# Altium schematic symbol library AltiumUGPlab10_var9.SchLib: 4 symbols
Pins are listed as number, name and electrical type; pins without a type are passive.

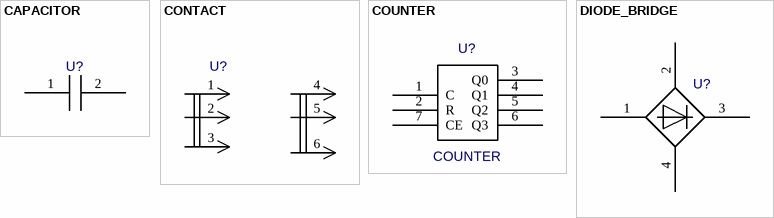
[diagram p0: symbols CAPACITOR to DIODE_BRIDGE]

## CAPACITOR
designator U?  (value not drawn)
Value: *
pins: 1 0, 2 1

## CONTACT
designator U?  (value not drawn)
Value: *
pins: 1, 2, 3, 4, 5, 6

## COUNTER
designator U?
Value: *
pins: 1 C, 2 R, 3 Q0, 4 Q1, 5 Q2, 6 Q3, 7 CE

## DIODE_BRIDGE
designator U?  (value not drawn)
Value: *
pins: 1, 2, 3, 4